# EAGLE library part 6490XX221732_649020221732 (library Wurth_Connectors_WR-MPC4)
WR-MPC4 4.20 mm Male Dual Row Vertical Header w. Mounting Pegs KIND PROPERTIES: Pitch:4.2 mm Gender:Male MATERIAL PROPERTIES: Insulator Material :PA66 Insulator Flammability Rating:UL94 V-0 Insulator Color:White Contact Material:Copper Alloy Contact Plating:Tin Contact Type:Stamped GENERAL INFORMATION Operating Temperature:-40 up to +105 °C Working Voltage:600V (AC) Withstanding Voltage:1500 V (AC) Contact Resistance:10 mΩ RISO:1000 MΩ PACKAGING PROPERTIES Packaging:Tray <https://katalog.we-online.com/media/images/v2/o33190v209%20Family_WR-MPC4_6490xx221732.jpg> Details see: https://katalog.we-online.com/en/em/MPC4_4_20_MALE_DUAL_ROW_VERTICAL_HEADER_W_MOUNTING_PEGS_6490XX221732 Updated by Yingchun,Shan 2019-11-12 2019 (C) Würth Elektronik
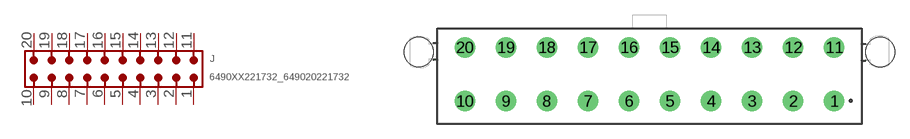
[diagram p8: symbol with the pads of 649020221732; footprint 649020221732]

Designator prefix J

## 6490XX221732_649020221732 (CONTACT-RESISTANCE: 10mOhm; DATASHEET-URL: https://www.we-online.com/catalog/datasheet/649020221732.pdf; GENDER: Male; L: 47.2mm; MATE-WITH: WR-MPC4 4.20 mm Female Dual Row Plug; MOUNT: THT; PACKAGING: Tray; PART-NUMBER: 649020221732; PCB-CABLE-PANEL: PCB; PINS: 20; PITCH: 4.2mm; ROWS: Dual; TOL-R: max.; TYPE: Vertical; WORKING-VOLTAGE: 600V(AC))  [649020221732]
1  1  pas
2  2  pas
3  3  pas
4  4  pas
5  5  pas
6  6  pas
7  7  pas
8  8  pas
9  9  pas
10  10  pas
11  11  pas
12  12  pas
13  13  pas
14  14  pas
15  15  pas
16  16  pas
17  17  pas
18  18  pas
19  19  pas
20  20  pas

## Footprint 649020221732 (pad centres in mm)
WR-MPC4 4.20 mm Male Dual Row Vertical Header w. Mounting Pegs, 20 Pins
drill 1.4: 1 18.9,-2.55; 2 14.7,-2.55; 3 10.5,-2.55; 4 6.3,-2.55; 5 2.1,-2.55; 6 -2.1,-2.55; 7 -6.3,-2.55; 8 -10.5,-2.55; 9 -14.7,-2.55; 10 -18.9,-2.55; 11 18.9,2.95; 12 14.7,2.95; 13 10.5,2.95; 14 6.3,2.95; 15 2.1,2.95; 16 -2.1,2.95; 17 -6.3,2.95; 18 -10.5,2.95; 19 -14.7,2.95; 20 -18.9,2.95
hole 3 at -23.6,2.49
hole 3 at 23.6,2.49